# Altium schematic symbol library DIODE,Array,2Pair,CC,100V,125mA,SOT363.Schlib: 1 symbol
Pins are listed as number, name and electrical type; pins without a type are passive.

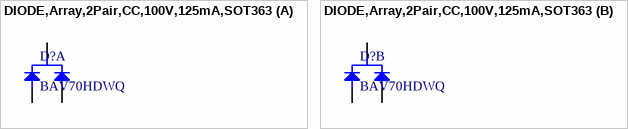
[diagram p0: symbol DIODE,Array,2Pair,CC,100V,125mA,SOT363]

## DIODE,Array,2Pair,CC,100V,125mA,SOT363
designator D?, comment BAV70HDWQ
Diode Array 2 Pair Common Cathode 100 V 125mA Surface Mount 6-TSSOP, SC-88, SOT-363
part A pins: 1 A1, 2 A2, 6 C12
part B pins: 3 C34, 4 A3, 5 A4